# EAGLE library part 6PIN (library jst)
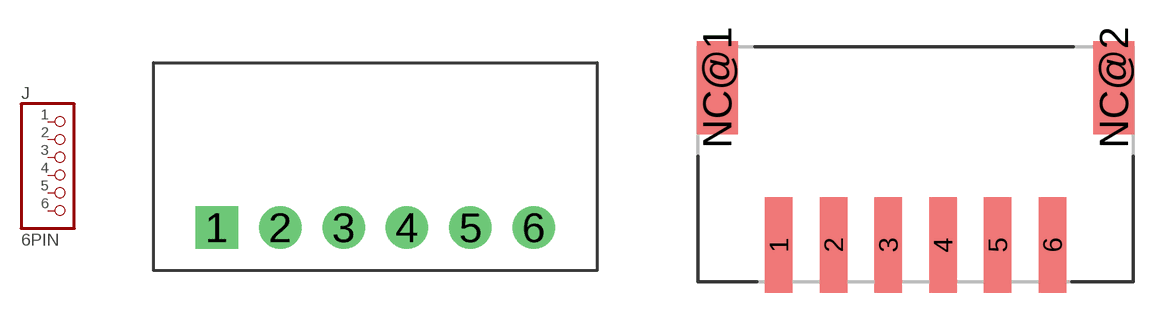
[diagram p0: symbol with the pads of S6B-EH; footprints S6B-EH, S6B-PH-SM4]

Designator prefix J

## 6PINS6B-EH  [S6B-EH]
1  1  pas
2  2  pas
3  3  pas
4  4  pas
5  5  pas
6  6  pas

## 6PINS6B-PH-SM4  [S6B-PH-SM4]
Pads as for S6B-EH

## Footprint S6B-EH (pad centres in mm)
S6B-EH JST 6-Pin Header Side Entry 2.5mm Pitch 6 conductor datasheet <http://www.jst-mfg.com/product/pdf/eng/eEH.pdf>
drill 0.9 pad 1.676 square: 1 -6.5,-2.3
drill 0.9 pad 1.676: 2 -4,-2.3; 3 -1.5,-2.3; 4 1,-2.3; 5 3.5,-2.3; 6 6,-2.3

## Footprint S6B-PH-SM4 (pad centres in mm)
smd 1 x 3.5: 1 -5,-2.95; 2 -3,-2.95; 3 -1,-2.95; 4 1,-2.95; 5 3,-2.95; 6 5,-2.95
smd 1.5 x 3.4: NC@1 -7.25,2.8; NC@2 7.25,2.8